# EAGLE library part 74*164 (library 74ttl-din)
8-bit parallel out SHIFT REGISTER
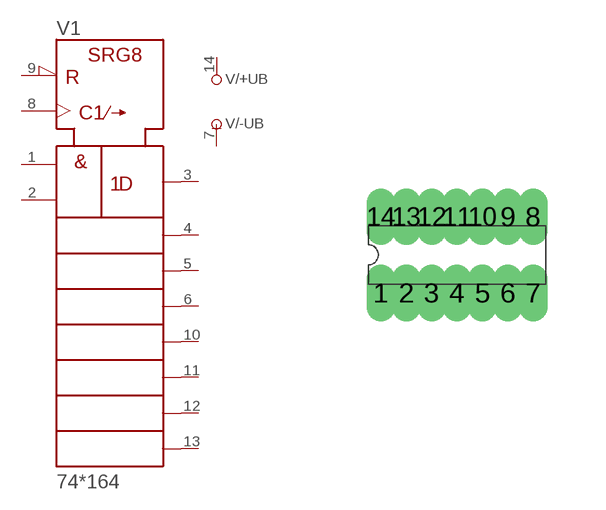
[diagram p52: symbol with the pads of DIL14; footprint DIL14]

Designator prefix V; gates /+UB=+UB /-UB=-UB 1=164

## 74164N  [DIL14]
1  1:A  in
2  1:B  in
3  1:QA  out
4  1:QB  out
5  1:QC  out
6  1:QD  out
7  /-UB:-UB  pwr
8  1:CLK  in
9  1:!CLR  in
10  1:QE  out
11  1:QF  out
12  1:QG  out
13  1:QH  out
14  /+UB:+UB  pwr

## Footprint DIL14 (pad centres in mm)
Dual In Line Package
drill 0.203 long: 1 -1.905,-0.953; 2 -1.27,-0.953; 3 -0.635,-0.953; 4 0,-0.953; 5 0.635,-0.953; 6 1.27,-0.953; 7 1.905,-0.953; 8 1.905,0.953; 9 1.27,0.953; 10 0.635,0.953; 11 0,0.953; 12 -0.635,0.953; 13 -1.27,0.953; 14 -1.905,0.953